# Altium footprint library PcbLib1.PcbLib: 21 footprints (part 2 of 2)
Each footprint in its own frame and in the unit in brackets; x right, y up, seen from the top. Pads: shape width x height; smd on the part's side, far side on the other; paste and mask are expansions set on the pad; w line width, h text height; cw(c..) or ccw(c..) is an arc to the next point about the centre after c.
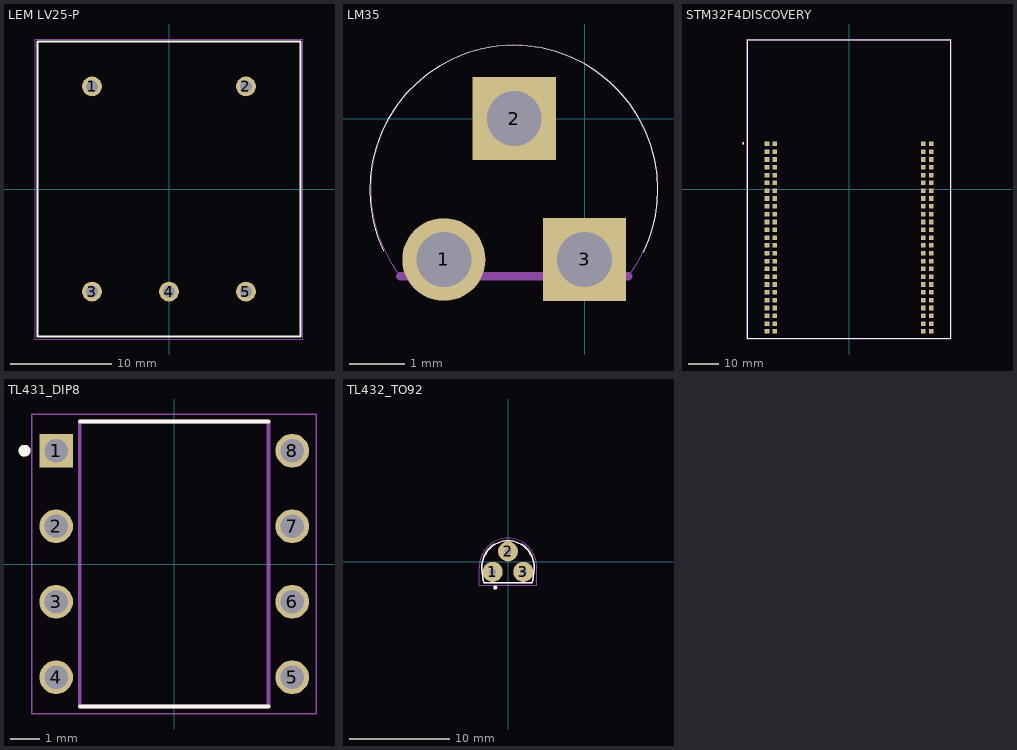
[diagram p1: the footprints below, top view; thin cyan lines are the x and y axes]

## LEM LV25-P [mm]
pads (5):
  round 1.962 hole 1.2: 1(-7.62,10.16) 2(7.62,10.16) 3(-7.62,-10.16) 4(0,-10.16) 5(7.62,-10.16)
Top Overlay:
  lines w0.2: -13,-14.6 13,-14.6 13,14.6 -13,14.6 -13,-14.6
Mechanical 15:
  lines w0.05: -13.25,-14.85 13.25,-14.85 13.25,14.85 -13.25,14.85 -13.25,-14.85
3D body "step_temp.STEP": height 15.2, standoff -6, extent -12.873,-15.616 13.127,13.584

## LM35 [mil]
pads (3):
  round 59 hole 39: 1(-100,-100)
  rect 59x59 hole 39: 2(-50,0) 3(0,-100)
Top Overlay:
  lines w0: -143.16,-93.65 cw(c-50.38,-50.38) 52,-50.38 ; 42.02,-94.95 ccw(c-54.49,-49.95) 52,-49.95
Mechanical 13:
  lines w0: -131.54,-111.29 cw(c-50,-49.85) 31.54,-111.29
  lines w6: -131,-112 31,-112

## STM32F4DISCOVERY [mm]
pads (100):
  rect 1.5x1.5 hole 0.5: P1_1(-26.67,14.68) P1_2(-24.13,14.68) P1_3(-26.67,12.14) P1_4(-24.13,12.14) P1_5(-26.67,9.6) P1_6(-24.13,9.6) P1_7(-26.67,7.06) P1_8(-24.13,7.06) P1_9(-26.67,4.52) P1_10(-24.13,4.52) P1_11(-26.67,1.98) P1_12(-24.13,1.98) P1_13(-26.67,-0.56) P1_14(-24.13,-0.56) P1_15(-26.67,-3.1) P1_16(-24.13,-3.1) P1_17(-26.67,-5.64) P1_18(-24.13,-5.64) P1_19(-26.67,-8.18) P1_20(-24.13,-8.18) P1_21(-26.67,-10.72) P1_22(-24.13,-10.72) P1_23(-26.67,-13.26) P1_24(-24.13,-13.26) P1_25(-26.67,-15.8) P1_26(-24.13,-15.8) P1_27(-26.67,-18.34) P1_28(-24.13,-18.34) P1_29(-26.67,-20.88) P1_30(-24.13,-20.88) P1_31(-26.67,-23.42) P1_32(-24.13,-23.42) P1_33(-26.67,-25.96) P1_34(-24.13,-25.96) P1_35(-26.67,-28.5) P1_36(-24.13,-28.5) P1_37(-26.67,-31.04) P1_38(-24.13,-31.04) P1_39(-26.67,-33.58) P1_40(-24.13,-33.58) P1_41(-26.67,-36.12) P1_42(-24.13,-36.12) P1_43(-26.67,-38.66) P1_44(-24.13,-38.66) P1_45(-26.67,-41.2) P1_46(-24.13,-41.2) P1_47(-26.67,-43.74) P1_48(-24.13,-43.74) P1_49(-26.67,-46.28) P1_50(-24.13,-46.28) P2_1(24.13,14.68) P2_2(26.67,14.68) P2_3(24.13,12.14) P2_4(26.67,12.14) P2_5(24.13,9.6) P2_6(26.67,9.6) P2_7(24.13,7.06) P2_8(26.67,7.06) P2_9(24.13,4.52) P2_10(26.67,4.52) P2_11(24.13,1.98) P2_12(26.67,1.98) P2_13(24.13,-0.56) P2_14(26.67,-0.56) P2_15(24.13,-3.1) P2_16(26.67,-3.1) P2_17(24.13,-5.64) P2_18(26.67,-5.64) P2_19(24.13,-8.18) P2_20(26.67,-8.18) P2_21(24.13,-10.72) P2_22(26.67,-10.72) P2_23(24.13,-13.26) P2_24(26.67,-13.26) P2_25(24.13,-15.8) P2_26(26.67,-15.8) P2_27(24.13,-18.34) P2_28(26.67,-18.34) P2_29(24.13,-20.88) P2_30(26.67,-20.88) P2_31(24.13,-23.42) P2_32(26.67,-23.42) P2_33(24.13,-25.96) P2_34(26.67,-25.96) P2_35(24.13,-28.5) P2_36(26.67,-28.5) P2_37(24.13,-31.04) P2_38(26.67,-31.04) P2_39(24.13,-33.58) P2_40(26.67,-33.58) P2_41(24.13,-36.12) P2_42(26.67,-36.12) P2_43(24.13,-38.66) P2_44(26.67,-38.66) P2_45(24.13,-41.2) P2_46(26.67,-41.2) P2_47(24.13,-43.74) P2_48(26.67,-43.74) P2_49(24.13,-46.28) P2_50(26.67,-46.28)
Top Overlay:
  circle w0.4: c-34.41,14.88 r0.2
  lines w0.127: -33,-48.5 -33,48.5 33,48.5 33,-48.5 -33,-48.5
Mechanical 13:
  circle w0.4: c-34.41,14.88 r0.2
  lines w0.127: -33,-48.5 -33,48.5 33,48.5 33,-48.5 -33,-48.5
Mechanical 15:
  lines w0.05: -33.25,-48.75 -33.25,48.75 33.25,48.75 33.25,-48.75 -33.25,-48.75

## TL431_DIP8 [mm]
pads (8):
  rect 1.13x1.13 hole 0.78: 1(-3.97,3.81)
  round 1.13 hole 0.78: 2(-3.97,1.27) 3(-3.97,-1.27) 4(-3.97,-3.81) 5(3.97,-3.81) 6(3.97,-1.27) 7(3.97,1.27) 8(3.97,3.81)
Top Overlay:
  circle w0.2: c-5.035,3.81 r0.1
  lines w0.127: -3.175,-4.795 3.175,-4.795 ; -3.175,4.795 3.175,4.795
Mechanical 13:
  circle w0.2: c-5.035,3.81 r0.1
  lines w0.127: -3.175,-4.795 3.175,-4.795 3.175,4.795 -3.175,4.795 -3.175,-4.795
Mechanical 15:
  lines w0.05: -4.785,-5.045 4.785,-5.045 4.785,5.045 -4.785,5.045 -4.785,-5.045

## TL432_TO92 [mm]
pads (3):
  round 2 hole 0.7: 1(-1.524,-1.016) 2(0,1.016) 3(1.524,-1.016)
Top Overlay:
  circle w0.2: c-1.27,-2.575 r0.1
  lines w0.127: -2.606,-0.542 ccw(c6.178,-0.235) -2.42,-2.062 ; -2.605,-0.589 cw(c0.032,-0.543) -0.014,2.095 ; -2.412,-2.095 2.412,-2.095 ; 0.014,2.095 cw(c-0.032,-0.543) 2.605,-0.589 ; 2.42,-2.062 ccw(c-6.178,-0.235) 2.606,-0.542
Mechanical 13:
  circle w0.2: c-1.27,-2.575 r0.1
  lines w0.127: -2.606,-0.542 ccw(c6.178,-0.235) -2.42,-2.062 ; -2.605,-0.589 cw(c0.032,-0.543) -0.014,2.095 ; -2.412,-2.095 2.412,-2.095 ; 0.014,2.095 cw(c-0.032,-0.543) 2.605,-0.589 ; 2.42,-2.062 ccw(c-6.178,-0.235) 2.606,-0.542
Mechanical 15:
  lines w0.05: -2.855,-0.593 cw(c0.032,-0.543) -0.018,2.345 ; -2.855,-0.575 -2.855,-2.345 2.855,-2.345 2.855,-0.575 ; 0.018,2.345 cw(c-0.032,-0.543) 2.855,-0.593
3D body "step_temp.STEP": height 5.34, standoff -12.7, extent -2.286,-1.84 2.539,1.84